# Altium footprint library 3.07-测试点-跳线座-冷压插片.PcbLib: 81 footprints (part 6 of 6)
Each footprint in its own frame and in the unit in brackets; x right, y up, seen from the top. Pads: shape width x height; smd on the part's side, far side on the other; paste and mask are expansions set on the pad; w line width, h text height; cw(c..) or ccw(c..) is an arc to the next point about the centre after c.
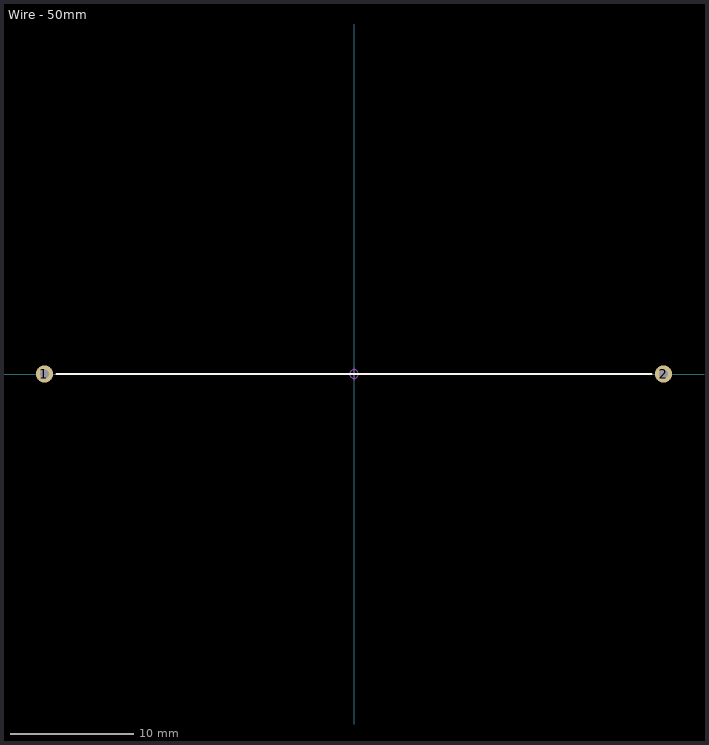
[diagram p5: the footprint, top view; thin cyan lines are the x and y axes]

## Wire - 50mm [mm] "直接：0.5mm，脚距：50mm"
pads (2):
  round 1.4 hole 0.7: 1(-25,0) 2(25,0)
Top Overlay:
  lines w0.2: -24,0 24,0
Mechanical 15:
  circle w0.05: c0,0 r0.35
  lines w0.05: -0.5,0 0.5,0 ; 0,-0.5 0,0.5
3D body "Wire - 50mm.STEP": height 0.95, standoff -2.8, extent -25.25,-0.25 25.25,0.25